# Altium footprint library Integrated_Library - 21.10.25 - 13.14.PcbLib: 16 footprints
Each footprint in its own frame and in the unit in brackets; x right, y up, seen from the top. Pads: shape width x height; smd on the part's side, far side on the other; paste and mask are expansions set on the pad; w line width, h text height; cw(c..) or ccw(c..) is an arc to the next point about the centre after c.
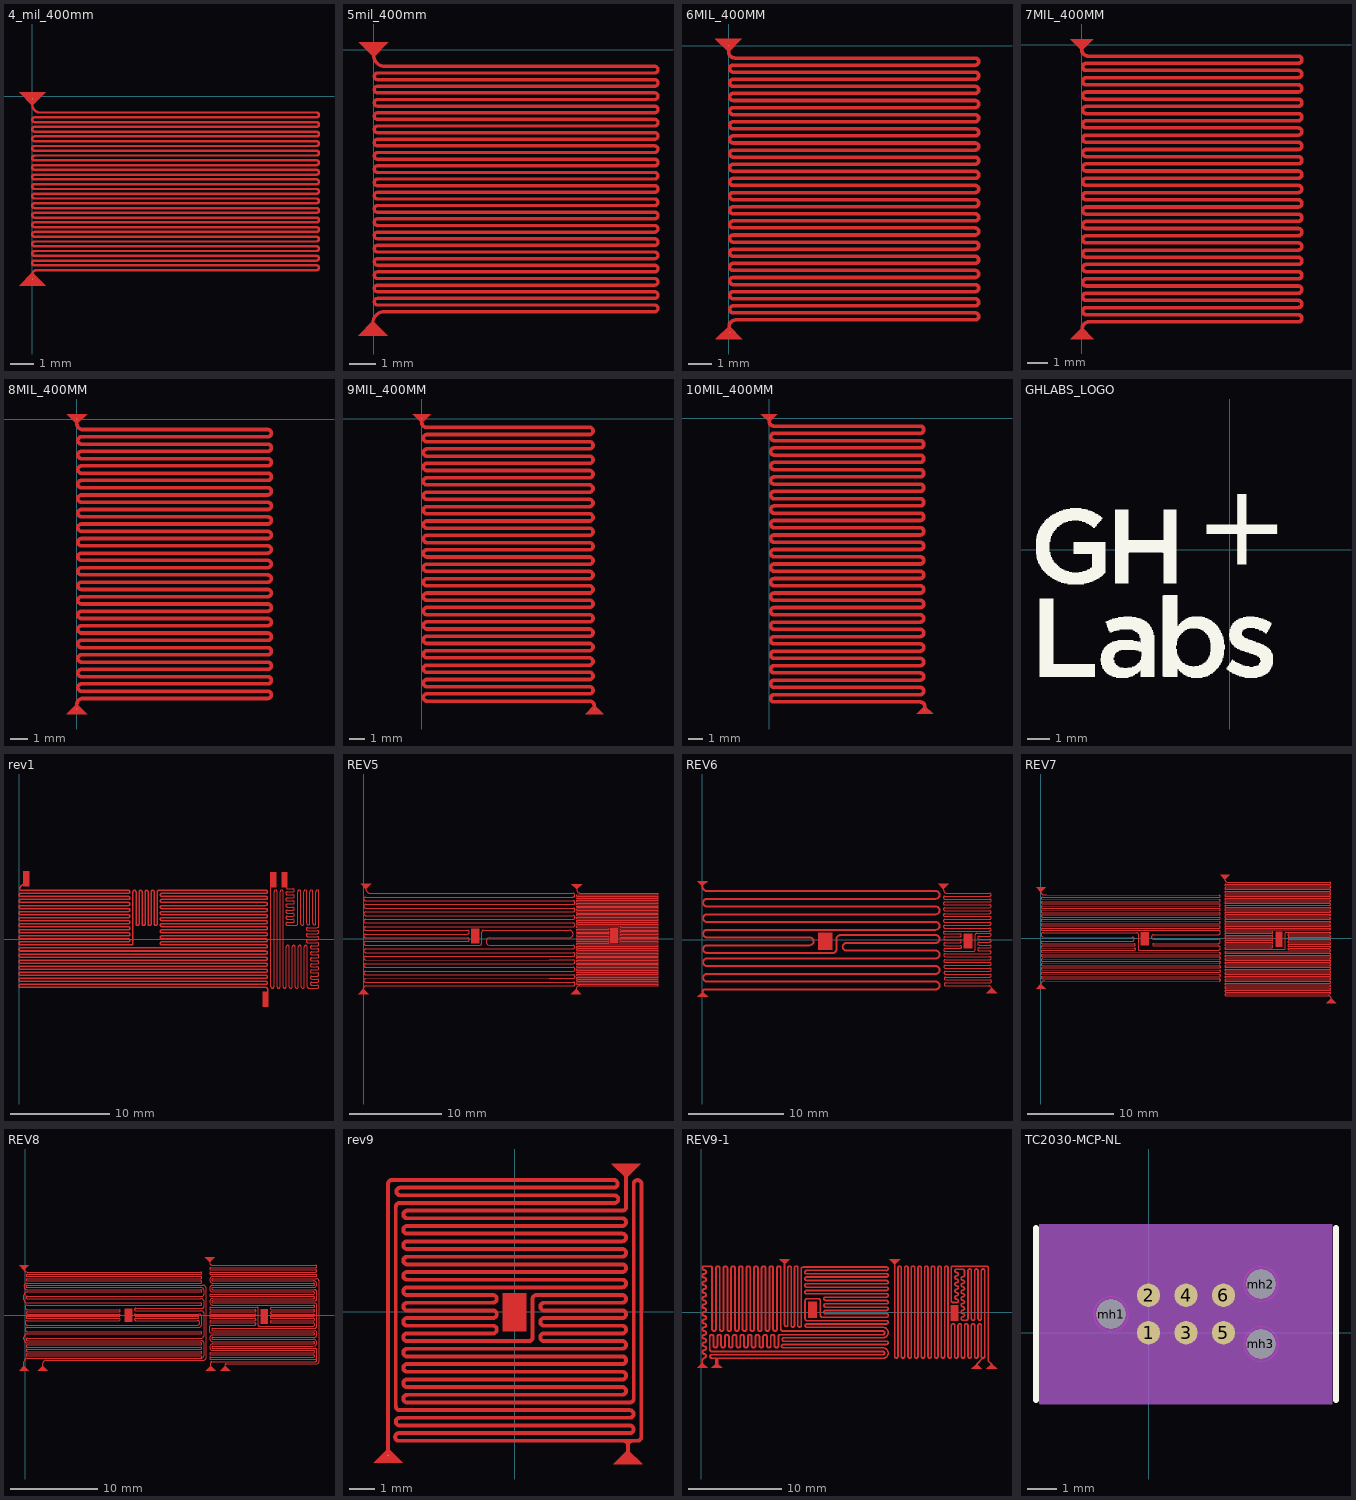
[diagram p0: the footprints below, top view; thin cyan lines are the x and y axes]

## 4_mil_400mm [mil] "4mil track about 400 mm long"
pads (2):
  round 1 smd paste-99999 mask+4: 1(0,-4) 2(0,-306)
Top Layer:
  region: 0,-15.25 -22.5,7.25 22.5,7.25
  region: 0,-294.75 22.5,-317.25 -22.5,-317.25
  lines w4: 0,-298 cw(c7.07,-298) 7.07,-290.93 476,-290.93 ccw(c476,-286.93) 476,-282.93 3.56,-282.93 cw(c3.56,-278.93) 3.56,-274.93 476,-274.93 ccw(c476,-270.93) 476,-266.93 3.56,-266.93 cw(c3.56,-262.93) 3.56,-258.93 476,-258.93 ccw(c476,-254.93) 476,-250.93 3.56,-250.93 cw(c3.56,-246.93) 3.56,-242.93 476,-242.93 ccw(c476,-238.93) 476,-234.93 3.56,-234.93 cw(c3.56,-230.93) 3.56,-226.93 476,-226.93 ccw(c476,-222.93) 476,-218.93 3.56,-218.93 cw(c3.56,-214.93) 3.56,-210.93 476,-210.93 ccw(c476,-206.93) 476,-202.93 3.56,-202.93 cw(c3.56,-198.93) 3.56,-194.93 476,-194.93 ccw(c476,-190.93) 476,-186.93 3.56,-186.93 cw(c3.56,-182.93) 3.56,-178.93 476,-178.93 ccw(c476,-174.93) 476,-170.93 3.56,-170.93 cw(c3.56,-166.93) 3.56,-162.93 476,-162.93 ccw(c476,-158.93) 476,-154.93 3.56,-154.93 cw(c3.56,-150.93) 3.56,-146.93 476,-146.93 ccw(c476,-142.93) 476,-138.93 3.56,-138.93 cw(c3.56,-134.93) 3.56,-130.93 476,-130.93 ccw(c476,-126.93) 476,-122.93 3.56,-122.93 cw(c3.56,-118.93) 3.56,-114.93 476,-114.93 ccw(c476,-110.93) 476,-106.93 3.56,-106.93 cw(c3.56,-102.93) 3.56,-98.93 476,-98.93 ccw(c476,-94.93) 476,-90.93 3.56,-90.93 cw(c3.56,-86.93) 3.56,-82.93 476,-82.93 ccw(c476,-78.93) 476,-74.93 3.56,-74.93 cw(c3.56,-70.93) 3.56,-66.93 476,-66.93 ccw(c476,-62.93) 476,-58.93 3.56,-58.93 cw(c3.56,-54.93) 3.56,-50.93 476,-50.93 ccw(c476,-46.93) 476,-42.93 3.56,-42.93 cw(c3.56,-38.93) 3.56,-34.93 476,-34.93 ccw(c476,-30.93) 476,-26.93 22,-26.93 12.93,-26.93 cw(c12.93,-14) 0,-14
  text "4mil 400mm" at 106,6 h30

## 5mil_400mm [mil] "5 mil track, 5 mil spacing, 400mm length"
pads (2):
  round 1 smd paste-99999 mask+4: 1(0,0) 2(-1,-420)
Top Layer:
  region: -1,-408.75 -23.5,-431.25 21.5,-431.25
  region: 0,-11.25 -22.5,11.25 22.5,11.25
  lines w5: -1,-412 cw(c16,-412) 16,-395 424,-395 ccw(c424,-390) 424,-385 6,-385 cw(c6,-380) 6,-375 424,-375 ccw(c424,-370) 424,-365 6,-365 cw(c6,-360) 6,-355 424,-355 ccw(c424,-350) 424,-345 6,-345 cw(c6,-340) 6,-335 424,-335 ccw(c424,-330) 424,-325 6,-325 cw(c6,-320) 6,-315 424,-315 ccw(c424,-310) 424,-305 6,-305 cw(c6,-300) 6,-295 424,-295 ccw(c424,-290) 424,-285 6,-285 cw(c6,-280) 6,-275 424,-275 ccw(c424,-270) 424,-265 6,-265 cw(c6,-260) 6,-255 424,-255 ccw(c424,-250) 424,-245 6,-245 cw(c6,-240) 6,-235 424,-235 ccw(c424,-230) 424,-225 6,-225 cw(c6,-220) 6,-215 424,-215 ccw(c424,-210) 424,-205 6,-205 cw(c6,-200) 6,-195 424,-195 ccw(c424,-190) 424,-185 6,-185 cw(c6,-180) 6,-175 424,-175 ccw(c424,-170) 424,-165 6,-165 cw(c6,-160) 6,-155 424,-155 ccw(c424,-150) 424,-145 6,-145 cw(c6,-140) 6,-135 424,-135 ccw(c424,-130) 424,-125 6,-125 cw(c6,-120) 6,-115 424,-115 ccw(c424,-110) 424,-105 6,-105 cw(c6,-100) 6,-95 424,-95 ccw(c424,-90) 424,-85 6,-85 cw(c6,-80) 6,-75 424,-75 ccw(c424,-70) 424,-65 6,-65 cw(c6,-60) 6,-55 424,-55 ccw(c424,-50) 424,-45 6,-45 cw(c6,-40) 6,-35 424,-35 ccw(c424,-30) 424,-25 43,-25 17,-25 cw(c17,-8) 0,-8
  text "5mil 400mm" at 89,7 h30

## 6MIL_400MM [mil] "6MIL track, 6MIL spacing, 400mm length"
pads (2):
  round 1 smd paste-99999 mask+4: 1(0,0) 2(1,-486)
Top Layer:
  region: 0,-11.25 -22.5,11.25 22.5,11.25
  region: 1,-474.75 -21.5,-497.25 23.5,-497.25
  lines w6: 0,-10 ccw(c11,-10) 11,-21 418,-21 cw(c418,-27) 418,-33 8,-33 ccw(c8,-39) 8,-45 418,-45 cw(c418,-51) 418,-57 8,-57 ccw(c8,-63) 8,-69 418,-69 cw(c418,-75) 418,-81 8,-81 ccw(c8,-87) 8,-93 418,-93 cw(c418,-99) 418,-105 8,-105 ccw(c8,-111) 8,-117 418,-117 cw(c418,-123) 418,-129 8,-129 ccw(c8,-135) 8,-141 418,-141 cw(c418,-147) 418,-153 8,-153 ccw(c8,-159) 8,-165 418,-165 cw(c418,-171) 418,-177 8,-177 ccw(c8,-183) 8,-189 418,-189 cw(c418,-195) 418,-201 8,-201 ccw(c8,-207) 8,-213 418,-213 cw(c418,-219) 418,-225 8,-225 ccw(c8,-231) 8,-237 418,-237 cw(c418,-243) 418,-249 8,-249 ccw(c8,-255) 8,-261 418,-261 cw(c418,-267) 418,-273 8,-273 ccw(c8,-279) 8,-285 418,-285 cw(c418,-291) 418,-297 8,-297 ccw(c8,-303) 8,-309 418,-309 cw(c418,-315) 418,-321 8,-321 ccw(c8,-327) 8,-333 418,-333 cw(c418,-339) 418,-345 8,-345 ccw(c8,-351) 8,-357 418,-357 cw(c418,-363) 418,-369 8,-369 ccw(c8,-375) 8,-381 418,-381 cw(c418,-387) 418,-393 8,-393 ccw(c8,-399) 8,-405 418,-405 cw(c418,-411) 418,-417 8,-417 ccw(c8,-423) 8,-429 418,-429 cw(c418,-435) 418,-441 8,-441 ccw(c8,-447) 8,-453 418,-453 cw(c418,-459) 418,-465 12,-465 ccw(c12,-476) 1,-476
  text "6mil 400mm" at 89.25,10.37 h30

## 7MIL_400MM [mil] "7MIL track, 7MIL spacing, 400mm length"
pads (2):
  round 1 smd paste-99999 mask+4: 1(0,0) 2(1,-562)
Top Layer:
  region: 0,-11.25 -22.5,11.25 22.5,11.25
  region: 1,-550.75 -21.5,-573.25 23.5,-573.25
  lines w7: 0,-9 ccw(c13,-9) 13,-22 14,-22 422,-22 cw(c422,-29) 422,-36 9,-36 ccw(c9,-43) 9,-50 422,-50 cw(c422,-57) 422,-64 9,-64 ccw(c9,-71) 9,-78 422,-78 cw(c422,-85) 422,-92 9,-92 ccw(c9,-99) 9,-106 422,-106 cw(c422,-113) 422,-120 9,-120 ccw(c9,-127) 9,-134 422,-134 cw(c422,-141) 422,-148 9,-148 ccw(c9,-155) 9,-162 422,-162 cw(c422,-169) 422,-176 9,-176 ccw(c9,-183) 9,-190 422,-190 cw(c422,-197) 422,-204 9,-204 ccw(c9,-211) 9,-218 422,-218 cw(c422,-225) 422,-232 9,-232 ccw(c9,-239) 9,-246 422,-246 cw(c422,-253) 422,-260 9,-260 ccw(c9,-267) 9,-274 422,-274 cw(c422,-281) 422,-288 9,-288 ccw(c9,-295) 9,-302 422,-302 cw(c422,-309) 422,-316 9,-316 ccw(c9,-323) 9,-330 422,-330 cw(c422,-337) 422,-344 9,-344 ccw(c9,-351) 9,-358 422,-358 cw(c422,-365) 422,-372 9,-372 ccw(c9,-379) 9,-386 422,-386 cw(c422,-393) 422,-400 9,-400 ccw(c9,-407) 9,-414 422,-414 cw(c422,-421) 422,-428 9,-428 ccw(c9,-435) 9,-442 422,-442 cw(c422,-449) 422,-456 9,-456 ccw(c9,-463) 9,-470 422,-470 cw(c422,-477) 422,-484 9,-484 ccw(c9,-491) 9,-498 422,-498 cw(c422,-505) 422,-512 9,-512 ccw(c9,-519) 9,-526 422,-526 cw(c422,-533) 422,-540 14,-540 ccw(c14,-553) 1,-553
  text "7mil 400mm" at 90.11,3.72 h30

## 8MIL_400MM [mil] "8MIL track, 8MIL spacing, 400mm length"
pads (2):
  round 1 smd paste-99999 mask+4: 1(0,0) 2(0,-638)
Top Layer:
  region: 0,-626.75 -22.5,-649.25 22.5,-649.25
  region: 0,-11.25 -22.5,11.25 22.5,11.25
  lines w8: 0,-628 cw(c13,-628) 13,-615 420,-615 ccw(c420,-607) 420,-599 10,-599 cw(c10,-591) 10,-583 420,-583 ccw(c420,-575) 420,-567 10,-567 cw(c10,-559) 10,-551 420,-551 ccw(c420,-543) 420,-535 10,-535 cw(c10,-527) 10,-519 420,-519 ccw(c420,-511) 420,-503 10,-503 cw(c10,-495) 10,-487 420,-487 ccw(c420,-479) 420,-471 10,-471 cw(c10,-463) 10,-455 420,-455 ccw(c420,-447) 420,-439 10,-439 cw(c10,-431) 10,-423 420,-423 ccw(c420,-415) 420,-407 10,-407 cw(c10,-399) 10,-391 420,-391 ccw(c420,-383) 420,-375 10,-375 cw(c10,-367) 10,-359 420,-359 ccw(c420,-351) 420,-343 10,-343 cw(c10,-335) 10,-327 420,-327 ccw(c420,-319) 420,-311 10,-311 cw(c10,-303) 10,-295 420,-295 ccw(c420,-287) 420,-279 10,-279 cw(c10,-271) 10,-263 420,-263 ccw(c420,-255) 420,-247 10,-247 cw(c10,-239) 10,-231 420,-231 ccw(c420,-223) 420,-215 10,-215 cw(c10,-207) 10,-199 420,-199 ccw(c420,-191) 420,-183 10,-183 cw(c10,-175) 10,-167 420,-167 ccw(c420,-159) 420,-151 10,-151 cw(c10,-143) 10,-135 420,-135 ccw(c420,-127) 420,-119 10,-119 cw(c10,-111) 10,-103 420,-103 ccw(c420,-95) 420,-87 10,-87 cw(c10,-79) 10,-71 420,-71 ccw(c420,-63) 420,-55 10,-55 cw(c10,-47) 10,-39 420,-39 ccw(c420,-31) 420,-23 16,-23 13,-23 cw(c13,-10) 0,-10
  text "8mil 400mm" at 93.99,6.14 h30

## 9MIL_400MM [mil] "9MIL track, 9MIL spacing, 400mm length"
pads (2):
  round 1 smd paste-99999 mask+4: 1(0,0) 2(431,-727)
Top Layer:
  region: 431,-715.75 453.5,-738.25 408.5,-738.25
  region: 0,-11.25 -22.5,11.25 22.5,11.25
  lines w9: 0,-10 ccw(c12,-10) 12,-22 419,-22 cw(c419,-31) 419,-40 13,-40 ccw(c13,-49) 13,-58 419,-58 cw(c419,-67) 419,-76 13,-76 ccw(c13,-85) 13,-94 419,-94 cw(c419,-103) 419,-112 13,-112 ccw(c13,-121) 13,-130 419,-130 cw(c419,-139) 419,-148 13,-148 ccw(c13,-157) 13,-166 419,-166 cw(c419,-175) 419,-184 13,-184 ccw(c13,-193) 13,-202 419,-202 cw(c419,-211) 419,-220 13,-220 ccw(c13,-229) 13,-238 419,-238 cw(c419,-247) 419,-256 13,-256 ccw(c13,-265) 13,-274 419,-274 cw(c419,-283) 419,-292 13,-292 ccw(c13,-301) 13,-310 419,-310 cw(c419,-319) 419,-328 13,-328 ccw(c13,-337) 13,-346 419,-346 cw(c419,-355) 419,-364 13,-364 ccw(c13,-373) 13,-382 419,-382 cw(c419,-391) 419,-400 13,-400 ccw(c13,-409) 13,-418 419,-418 cw(c419,-427) 419,-436 13,-436 ccw(c13,-445) 13,-454 419,-454 cw(c419,-463) 419,-472 13,-472 ccw(c13,-481) 13,-490 419,-490 cw(c419,-499) 419,-508 13,-508 ccw(c13,-517) 13,-526 419,-526 cw(c419,-535) 419,-544 13,-544 ccw(c13,-553) 13,-562 419,-562 cw(c419,-571) 419,-580 13,-580 ccw(c13,-589) 13,-598 419,-598 cw(c419,-607) 419,-616 13,-616 ccw(c13,-625) 13,-634 419,-634 cw(c419,-643) 419,-652 13,-652 ccw(c13,-661) 13,-670 419,-670 cw(c419,-679) 419,-688 13,-688 ccw(c13,-697) 13,-706 419,-706 cw(c419,-718) 431,-718
  text "9mil 400mm" at 104.99,12.14 h30

## 10MIL_400MM [mil] "10MIL track, 10MIL spacing, 400mm length"
pads (2):
  round 1 smd paste-99999 mask+4: 1(0,0) 2(429,-804)
Top Layer:
  region: 429,-792.75 451.5,-815.25 406.5,-815.25
  region: 0,-11.25 -22.5,11.25 22.5,11.25
  lines w10: 0,-9 ccw(c13,-9) 13,-22 416,-22 cw(c416,-32) 416,-42 14,-42 ccw(c14,-52) 14,-62 416,-62 cw(c416,-72) 416,-82 14,-82 ccw(c14,-92) 14,-102 416,-102 cw(c416,-112) 416,-122 14,-122 ccw(c14,-132) 14,-142 416,-142 cw(c416,-152) 416,-162 14,-162 ccw(c14,-172) 14,-182 416,-182 cw(c416,-192) 416,-202 14,-202 ccw(c14,-212) 14,-222 416,-222 cw(c416,-232) 416,-242 14,-242 ccw(c14,-252) 14,-262 416,-262 cw(c416,-272) 416,-282 14,-282 ccw(c14,-292) 14,-302 416,-302 cw(c416,-312) 416,-322 14,-322 ccw(c14,-332) 14,-342 416,-342 cw(c416,-352) 416,-362 14,-362 ccw(c14,-372) 14,-382 416,-382 cw(c416,-392) 416,-402 14,-402 ccw(c14,-412) 14,-422 416,-422 cw(c416,-432) 416,-442 14,-442 ccw(c14,-452) 14,-462 416,-462 cw(c416,-472) 416,-482 14,-482 ccw(c14,-492) 14,-502 416,-502 cw(c416,-512) 416,-522 14,-522 ccw(c14,-532) 14,-542 416,-542 cw(c416,-552) 416,-562 14,-562 ccw(c14,-572) 14,-582 416,-582 cw(c416,-592) 416,-602 14,-602 ccw(c14,-612) 14,-622 416,-622 cw(c416,-632) 416,-642 14,-642 ccw(c14,-652) 14,-662 416,-662 cw(c416,-672) 416,-682 14,-682 ccw(c14,-692) 14,-702 416,-702 cw(c416,-712) 416,-722 14,-722 ccw(c14,-732) 14,-742 416,-742 cw(c416,-752) 416,-762 14,-762 ccw(c14,-772) 14,-782 416,-782 cw(c416,-795) 429,-795
  text "10mil 400mm" at 79,6 h30

## GHLABS_LOGO [mil]
Top Overlay:
  drawing of 6 lines, arcs and shapes, not listed
  text "+" at -62,-74.14 h250

## rev1 [mil] "valve heater: 3 mil, 4.93 x 10mm / amp heater: 6 mil, 25.02 x 10mm"
pads (4):
  round 1 smd paste-99999: 1(28,239) 2(975,-238) 3(1006,235) 4(1050,235)
Top Layer:
  region: 39,209 39,269 16,269 16,209
  region: 986,-268 986,-208 963,-208 963,-268
  region: 1017,205 1017,265 994,265 994,205
  region: 1061,205 1061,265 1038,265 1038,205
  lines w3: 996,212 996,-188 ccw(c1002,-188) 1008,-188 1008,188 cw(c1014,188) 1020,188 1020,-188 ccw(c1026,-188) 1032,-188 1032,188 cw(c1038,188) 1044,188 1044,-188 ccw(c1050,-188) 1056,-188 1056,-31 cw(c1062,-31) 1068,-31 1068,-188 ccw(c1074,-188) 1080,-188 1080,-31 cw(c1086,-31) 1092,-31 1092,-188 ccw(c1098,-188) 1104,-188 1104,-31 cw(c1110,-31) 1116,-31 1116,-188 ccw(c1122,-188) 1128,-188 1128,-31 cw(c1134,-31) 1140,-31 1140,-188 ccw(c1146,-188) 1145.78,-194 1180,-194 ccw(c1180,-188) 1180,-182 1158,-182 cw(c1158,-176) 1158,-170 1180,-170 ccw(c1180,-164) 1180,-158 1158,-158 cw(c1158,-152) 1158,-146 1180,-146 ccw(c1180,-140) 1180,-134 1158,-134 cw(c1158,-128) 1158,-122 1180,-122 ccw(c1180,-116) 1180,-110 1158,-110 cw(c1158,-104) 1158,-98 1180,-98 ccw(c1180,-92) 1180,-86 1158,-86 cw(c1158,-80) 1158,-74 1180,-74 ccw(c1180,-68) 1180,-62 1158,-62 cw(c1158,-56) 1158,-50 1180,-50 ccw(c1180,-44) 1180,-38 1158,-38 cw(c1158,-32) 1158,-26 1180,-26 ccw(c1180,-20) 1180,-14 1142,-14 cw(c1142,-8) 1142,-2 1180,-2 ccw(c1180,4) 1180,10 1142,10 cw(c1142,16) 1142,22 1180,22 ccw(c1180,28) 1180,34 1142,34 cw(c1142,40) 1142,46 1180,46 ccw(c1180,52) 1186,52 1186,188 ccw(c1180,188) 1174,188 1174,61.96 cw(c1168,61.96) 1162,61.96 1162,188 ccw(c1156,188) 1150,188 1150,61.88 cw(c1144,61.88) 1138,61.88 1138,188 ccw(c1132,188) 1126,188 1126,61.1 cw(c1120,61.1) 1114,61.1 1114,188 ccw(c1108,188) 1102,188 1102,61 cw(c1096,61) 1096,55 1061,55 cw(c1061,61) 1061,67 1083,67 ccw(c1083,73) 1083,79 1061,79 cw(c1061,85) 1061,91 1082.69,91 ccw(c1082.69,97) 1082.69,103 1060.69,103 cw(c1060.69,109) 1060.69,115 1082.69,115 ccw(c1082.69,121) 1082.69,127 1060.69,127 cw(c1060.69,133) 1060.69,139 1082.69,139 ccw(c1082.69,145) 1082.69,151 1060.69,151 cw(c1060.69,157) 1060.69,163 1082.69,163 ccw(c1082.69,169) 1082.69,175 1060.69,175 cw(c1060.69,181) 1060.69,187 1082.69,187 ccw(c1082.69,193) 1082.69,199 1060.69,199 cw(c1060.69,201.69) 1058,201.69 1058,210 ccw(c1057,210) 1057,211
  lines w6: 21,217 ccw(c21,198) 2,198 ccw(c7,198) 7,193 432,193 cw(c432,187) 432,181 5,181 ccw(c5,175) 5,169 432,169 cw(c432,163) 432,157 5,157 ccw(c5,151) 5,145 433,145 ; 431,13 5,13 ccw(c5,7) 5,1 432,1 cw(c432,-5) 432,-11 5,-11 ccw(c5,-17) 5,-23 444,-23 ccw(c444,-17) 450,-17 450,187 cw(c456,187) 462,187 462,60 ccw(c468,60) 474,60 474,187 cw(c480,187) 486,187 486,60 ccw(c492,60) 498,60 498,187 cw(c504,187) 510,187 510,60 ccw(c516,60) 522,60 522,187 cw(c528,187) 534,187 ; 432,13 ccw(c432,19) 432,25 5,25 cw(c5,31) 5,37 433,37 ; 432,37 ccw(c432,43) 432,49 5,49 cw(c5,55) 5,61 432,61 ccw(c432,67) 432,73 ; 432,97 cw(c432,91) 432,85 5,85 ccw(c5,79) 5,73 433,73 ; 432,121 cw(c432,115) 432,109 5,109 ccw(c5,103) 5,97 433,97 ; 432,133 ccw(c432,139) 432,145 ; 433,121 5,121 cw(c5,127) 5,133 433,133 ; 534,186 534,60 ccw(c540,60) 546,60 546,187 cw(c552,187) 552,193 976,193 cw(c976,187) 976,181 564,181 ccw(c564,175) 564,169 976,169 cw(c976,163) 976,157 564,157 ccw(c564,151) 564,145 976,145 cw(c976,139) 976,133 564,133 ccw(c564,127) 564,121 976,121 cw(c976,115) 976,109 564,109 ccw(c564,103) 564,97 976,97 cw(c976,91) 976,85 564,85 ccw(c564,79) 564,73 976,73 cw(c976,67) 976,61 564,61 ccw(c564,55) 564,49 976,49 cw(c976,43) 976,37 564,37 ccw(c564,31) 564,25 976,25 cw(c976,19) 976,13 564,13 ccw(c564,7) 564,1 976,1 cw(c976,-5) 976,-11 564,-11 ccw(c564,-17) 564,-23 976,-23 cw(c976,-29) 976,-35 5,-35 ccw(c5,-41) 5,-47 976,-47 cw(c976,-53) 976,-59 ; 974.4,-191 cw(c974.4,-199.6) 983,-199.6 983,-214.26 ; 975,-191 5,-191 cw(c5,-185) 5,-179 976,-179 ccw(c976,-173) 976,-167 5,-167 cw(c5,-161) 5,-155 976,-155 ccw(c976,-149) 976,-143 ; 976,-83 ccw(c976,-77) 976,-71 5,-71 cw(c5,-65) 5,-59 977,-59 ; 977,-143 5,-143 cw(c5,-137) 5,-131 976,-131 ccw(c976,-125) 976,-119 5,-119 cw(c5,-113) 5,-107 976,-107 ccw(c976,-101) 976,-95 5,-95 cw(c5,-89) 5,-83 977,-83

## REV5 [mil] "2V5 Design"
pads (4):
  round 1 smd paste-99999 mask+4: 1(9.04,223.46) 2(-1.94,-223.16) 3(906.22,221.67) 4(903.25,-223.92)
Top Layer:
  rectangle: 1048.42,-19.64 1081.51,47.65
  rectangle: 456.26,-19.12 493.41,43.6
  region: 903.25,-212.67 925.75,-235.17 880.75,-235.17
  region: 906.22,210.42 883.72,232.92 928.72,232.92
  region: 9.04,212.21 -13.46,234.71 31.54,234.71
  region: -1.94,-211.9 20.56,-234.41 20.55,-234.41 -24.45,-234.41
  lines w3: -2.28,-223.14 -1.72,-212.76 ; 8.44,-26.52 cw(c8.44,-18.64) 8.44,-10.77 441.74,-10.66 ccw(c441.74,-2.78) 441.74,5.09 8.44,4.98 cw(c8.44,12.85) 8.44,20.73 441.74,20.84 ccw(c441.74,28.71) 441.74,36.59 8.44,36.48 cw(c8.44,44.35) 8.44,52.22 789.87,52.43 890.51,52.43 ; 8.44,-26.47 493.78,-26.34 ccw(c493.78,-18.58) 501.47,-17.48 501.47,27.55 cw(c509.17,28.64) 509.17,36.41 874.94,36.51 cw(c874.94,20.76) 874.94,5.01 536.15,4.92 ccw(c536.15,-10.83) 536.15,-26.58 890.53,-26.49 ; 8.82,213.06 ccw(c27.72,213.06) 27.72,194.16 779.28,194.16 879.91,194.16 889.45,194.16 890.51,194.16 cw(c890.51,186.28) 890.51,178.41 789.87,178.41 8.44,178.21 ccw(c8.44,170.33) 8.44,162.46 789.87,162.66 890.51,162.66 ; 890.51,68.17 789.87,68.17 8.44,67.97 cw(c8.44,75.85) 8.44,83.72 789.87,83.92 890.51,83.92 ; 890.51,99.67 789.87,99.67 8.44,99.47 cw(c8.44,107.34) 8.44,115.22 789.87,115.42 890.51,115.42 ; 890.51,131.17 789.87,131.17 8.44,130.96 cw(c8.44,138.84) 8.44,146.71 789.87,146.91 890.51,146.91 ; 890.53,-199.66 789.9,-199.66 11.17,-199.86 ccw(c11.17,-212.76) -1.72,-212.76 ; 890.53,-183.91 789.9,-183.91 8.46,-184.11 cw(c8.46,-176.24) 8.46,-168.37 789.9,-168.16 890.53,-168.16 ; 890.53,-152.42 789.9,-152.42 8.46,-152.62 cw(c8.46,-144.74) 8.46,-136.87 789.9,-136.67 890.53,-136.67 ; 890.53,-120.92 789.9,-120.92 8.46,-121.12 cw(c8.46,-113.25) 8.46,-105.37 789.9,-105.17 890.53,-105.17 ; 890.53,-89.42 789.9,-89.42 8.46,-89.63 cw(c8.46,-81.75) 8.46,-73.88 789.9,-73.68 890.53,-73.68 ; 890.53,-57.93 789.9,-57.93 8.46,-58.13 cw(c8.46,-50.26) 8.46,-42.38 789.9,-42.18 890.53,-42.18 ccw(c890.53,-34.31) 890.53,-26.43 ; 891.06,-199.66 ccw(c891.06,-191.79) 891.06,-183.91 ; 891.06,-168.16 ccw(c891.06,-160.29) 891.06,-152.42 ; 891.06,-136.67 ccw(c891.06,-128.79) 891.06,-120.92 ; 891.06,-105.17 ccw(c891.06,-97.3) 891.06,-89.42 ; 891.06,-73.68 ccw(c891.06,-65.8) 891.06,-57.93 ; 891.03,52.43 ccw(c891.03,60.3) 891.03,68.17 ; 891.03,83.92 ccw(c891.03,91.8) 891.03,99.67 ; 891.03,115.42 ccw(c891.03,123.29) 891.03,131.17 ; 891.03,146.91 ccw(c891.03,154.79) 891.03,162.66 ; 903.3,-214.73 cw(c919.44,-214.73) 919.44,-198.58 925.74,-198.58 1188.97,-198.58 1189.08,-198.58 1252,-198.58 1252,-192.64 982.62,-192.64 ccw(c982.6,-192.64) 982.6,-192.62 906.09,-192.62 906.09,-186.62 ; 906,212.28 ccw(c924.2,212.28) 924.2,194.08 949.94,194.08 1252,194.08 1252,188.1 906,188.1 906,182.1 984.99,182.1 ; 906.11,-186.64 982.62,-186.64 1252,-186.64 1252,-180.64 982.62,-180.64 ccw(c982.6,-180.64) 982.6,-180.62 906.09,-180.62 ; 906.11,-180.64 906.11,-174.64 982.62,-174.64 1252,-174.64 1252,-168.64 982.62,-168.64 ccw(c982.6,-168.64) 982.6,-168.62 906.09,-168.62 ; 906.11,-168.64 906.11,-162.64 982.62,-162.64 1252,-162.64 1252,-156.64 982.62,-156.64 ccw(c982.6,-156.64) 982.6,-156.62 906.09,-156.62 ; 906.11,-156.64 906.11,-150.64 982.62,-150.64 1252,-150.64 1252,-144.64 982.62,-144.64 ccw(c982.6,-144.64) 982.6,-144.62 906.09,-144.62 ; 906.11,-144.64 906.11,-138.64 982.62,-138.64 1252,-138.64 1252,-132.64 982.62,-132.64 ccw(c982.6,-132.64) 982.6,-132.62 906.09,-132.62 ; 906.11,-132.64 906.11,-126.64 982.62,-126.64 1252,-126.64 1252,-120.64 982.62,-120.64 ccw(c982.6,-120.64) 982.6,-120.62 906.09,-120.62 ; 906.11,-120.64 906.11,-114.64 982.62,-114.64 1252,-114.64 1252,-108.64 982.62,-108.64 ccw(c982.6,-108.64) 982.6,-108.62 906.09,-108.62 ; 906.11,-108.64 906.11,-102.64 982.62,-102.64 1252,-102.64 1252,-96.64 982.62,-96.64 ccw(c982.6,-96.64) 982.6,-96.62 906.09,-96.62 ; 906.11,-96.64 906.11,-90.64 982.62,-90.64 1252,-90.64 1252,-84.64 982.62,-84.64 ccw(c982.6,-84.64) 982.6,-84.62 906.09,-84.62 906.09,-78.62 982.6,-78.62 cw(c982.6,-78.64) 982.62,-78.64 1252,-78.64 1252,-72.64 982.62,-72.64 ccw(c982.6,-72.64) 982.6,-72.62 906.09,-72.62 906.09,-66.62 982.6,-66.62 cw(c982.6,-66.64) 982.62,-66.64 1252,-66.64 1252,-60.64 982.62,-60.64 ccw(c982.6,-60.64) 982.6,-60.62 906.09,-60.62 906.09,-54.62 982.6,-54.62 cw(c982.6,-54.64) 982.62,-54.64 1252,-54.64 1252,-48.64 982.62,-48.64 ccw(c982.6,-48.64) 982.6,-48.62 906.09,-48.62 906.09,-42.62 982.6,-42.62 cw(c982.6,-42.64) 982.62,-42.64 1252,-42.64 1252,-36.64 982.62,-36.64 ccw(c982.6,-36.64) 982.6,-36.62 906.09,-36.62 906.09,-30.62 982.6,-30.62 cw(c982.6,-30.64) 982.62,-30.64 1252,-30.64 1252,-24.64 982.62,-24.64 ccw(c982.6,-24.64) 982.6,-24.62 906.09,-24.62 906.09,-18.62 982.6,-18.62 cw(c982.6,-18.64) 982.62,-18.64 1043.54,-18.64 1043.54,-12.64 982.62,-12.64 ccw(c982.6,-12.64) 982.6,-12.62 906.09,-12.62 906.09,-6.62 982.6,-6.62 cw(c982.6,-6.64) 982.62,-6.64 1043.54,-6.64 1043.54,-0.64 982.62,-0.64 ccw(c982.6,-0.64) 982.6,-0.62 906.09,-0.62 906.09,5.38 982.6,5.38 cw(c982.6,5.36) 982.62,5.36 1043.54,5.36 1043.54,11.36 982.62,11.36 ccw(c982.6,11.36) 982.6,11.38 906.09,11.38 906.09,17.38 982.6,17.38 cw(c982.6,17.36) 982.62,17.36 1043.54,17.36 1043.54,23.36 982.62,23.36 ccw(c982.6,23.36) 982.6,23.38 906.09,23.38 906.09,29.38 982.6,29.38 cw(c982.6,29.36) 982.62,29.36 1043.54,29.36 1043.54,35.36 982.62,35.36 ccw(c982.6,35.36) 982.6,35.38 906.09,35.38 906.09,41.38 982.6,41.38 cw(c982.6,41.36) 982.62,41.36 1043.54,41.36 1043.54,47.36 982.62,47.36 ccw(c982.6,47.36) 982.6,47.38 906.09,47.38 906.09,55.68 982.6,55.68 cw(c982.6,55.66) 982.62,55.66 1086.15,55.66 1086.15,-16.05 1252,-16.05 1252,-10.05 1094.18,-10.05 ; 982.53,170.08 1252,170.08 1252,164.08 982.53,164.08 ccw(c982.51,164.08) 982.51,164.1 906,164.1 906,158.1 982.51,158.1 cw(c982.51,158.08) 982.53,158.08 1252,158.08 1252,152.08 982.53,152.08 ccw(c982.51,152.08) 982.51,152.1 906,152.1 906,146.1 982.51,146.1 cw(c982.51,146.08) 982.53,146.08 1252,146.08 1252,140.08 982.53,140.08 ccw(c982.51,140.08) 982.51,140.1 906,140.1 906,134.1 982.51,134.1 cw(c982.51,134.08) 982.53,134.08 1252,134.08 1252,128.08 982.53,128.08 ccw(c982.51,128.08) 982.51,128.1 906,128.1 906,122.1 982.51,122.1 cw(c982.51,122.08) 982.53,122.08 1252,122.08 1252,116.08 982.53,116.08 ccw(c982.51,116.08) 982.51,116.1 906,116.1 906,110.1 982.51,110.1 cw(c982.51,110.08) 982.53,110.08 1252,110.08 1252,104.08 982.53,104.08 ccw(c982.51,104.08) 982.51,104.1 906,104.1 906,98.1 982.51,98.1 cw(c982.51,98.08) 982.53,98.08 1252,98.08 1252,92.08 982.53,92.08 ccw(c982.51,92.08) 982.51,92.1 906,92.1 906,86.1 982.51,86.1 cw(c982.51,86.08) 982.53,86.08 1252,86.08 1252,80.08 982.53,80.08 ccw(c982.51,80.08) 982.51,80.1 906,80.1 906,74.1 982.51,74.1 cw(c982.51,74.08) 982.53,74.08 1252,74.08 1252,68.08 982.53,68.08 ccw(c982.51,68.08) 982.51,68.1 906,68.1 906,62.1 982.51,62.1 cw(c982.51,62.08) 982.53,62.08 1252,62.08 1252,55.95 1094.18,55.95 ; 982.53,176.08 1252,176.08 1252,182.08 982.53,182.08 ; 1094.18,-9.85 1094.18,-3.85 ; 1094.18,-4.05 1252,-4.05 1252,1.95 1094.18,1.95 ; 1094.18,2.15 1094.18,8.15 ; 1094.18,7.95 1252,7.95 1252,13.95 1094.18,13.95 ; 1094.18,14.15 1094.18,20.15 ; 1094.18,19.95 1252,19.95 1252,25.95 1094.18,25.95 ; 1094.18,26.15 1094.18,32.15 ; 1094.18,31.95 1252,31.95 1252,37.95 1094.18,37.95 ; 1094.18,38.15 1094.18,44.15 ; 1094.18,43.95 1252,43.95 1252,49.95 1094.18,49.95 ; 1094.18,50.15 1094.18,56.15 ; -1.72,-212.76 -1.94,-223.16 -1.72,-212.76 ; 985.01,170.08 ccw(c984.99,170.08) 984.99,170.1 ; 984.99,170.1 906,170.1 906,176.1 984.99,176.1 ; 985.01,176.08 ccw(c984.99,176.08) 984.99,176.1 ; 985.01,182.08 ccw(c984.99,182.08) 984.99,182.1

## REV6 [mil] "1V5 Design"
pads (4):
  round 1 smd paste-99999 mask+4: 1(1,231) 2(2,-225) 3(996.04,219) 4(1194.54,-210)
Top Layer:
  rectangle: 478,-42 538,30
  rectangle: 1079,-36.78 1116.16,26.11
  region: 1194.54,-198.75 1217.04,-221.25 1217.03,-221.25 1172.03,-221.25
  region: 2,-213.75 24.5,-236.25 -20.5,-236.25
  region: 1,219.75 -21.5,242.25 23.5,242.25
  region: 996.04,207.75 973.54,230.25 1018.54,230.25
  lines w4: 996.04,208.57 996.04,206.09 ccw(c1010.09,206.02) 1010.09,191.97 1187,191.97 ; 996.04,213.52 996.04,222 ; 1002,12 1064,12 ccw(c1064,18) 1064,24 ; 1002.31,-11.96 1064.31,-11.96 ccw(c1064.31,-5.96) 1064.31,0.04 ; 1002.31,12.01 ccw(c1002.31,6.01) 1002.31,0.01 1064.31,0.01 ; 1002.61,-35.92 1064.61,-35.92 ccw(c1064.61,-29.92) 1064.61,-23.92 ; 1002.61,-11.95 ccw(c1002.61,-17.95) 1002.61,-23.95 1064.61,-23.95 ; 1002.92,-57.83 1187,-57.83 ; 1002.92,-35.91 ccw(c1002.92,-41.91) 1002.92,-47.91 1121,-47.91 ccw(c1121,-41.91) 1127,-41.93 1127,20.07 cw(c1133,20.05) 1133,26.05 ; 1003.23,-81.85 1187.31,-81.85 ; 1003.23,-57.82 ccw(c1003.23,-63.82) 1003.23,-69.82 1187.31,-69.82 cw(c1187.31,-75.82) 1187.31,-81.82 ; 1003.54,-105.87 1187.61,-105.87 ccw(c1187.61,-99.84) 1187.61,-93.84 1003.54,-93.84 cw(c1003.54,-87.84) 1003.54,-81.84 ; 1003.84,-129.9 1187.92,-129.9 ; 1003.84,-105.87 ccw(c1003.84,-111.87) 1003.84,-117.87 1187.92,-117.87 cw(c1187.92,-123.87) 1187.92,-129.87 ; 1004.15,-153.92 1188.23,-153.92 ccw(c1188.23,-147.89) 1188.23,-141.89 1004.15,-141.89 cw(c1004.15,-135.89) 1004.15,-129.89 ; 1004.46,-177.94 1188.54,-177.94 ; 1004.46,-153.91 ccw(c1004.46,-159.91) 1004.46,-165.91 1188.54,-165.91 cw(c1188.54,-171.91) 1188.54,-177.91 ; 1004.76,-177.94 ccw(c1004.76,-183.94) 1004.76,-189.94 1174,-189.94 1182.47,-189.94 cw(c1182.47,-202) 1194.54,-202 ; 1064,23.97 1002,23.97 cw(c1002,29.94) 1002,35.94 1187,35.97 ; 1133,26.08 1187,26.08 cw(c1187,20.11) 1187,14.11 1143,14.08 ccw(c1143,8.11) 1143,2.11 1187,2.11 ; 1143,-9.89 1187,-9.89 ; 1143,-9.86 ccw(c1143,-15.86) 1143,-21.86 1187,-21.86 cw(c1187,-27.83) 1187,-33.83 1143,-33.86 ccw(c1143,-39.83) 1143,-45.83 1187,-45.83 ; 1187,-57.8 ccw(c1187,-51.8) 1187,-45.8 ; 1187,-9.86 ccw(c1187,-3.86) 1187,2.14 ; 1187,36 ccw(c1187,42) 1187,48 ; 1187,47.97 1002,47.97 cw(c1002,53.94) 1002,59.94 1187,59.97 ; 1187,60 ccw(c1187,66) 1187,72 ; 1187,71.97 1002,71.97 cw(c1002,77.94) 1002,83.94 1187,83.97 ; 1187,84 ccw(c1187,90) 1187,96 ; 1187,95.97 1002,95.97 cw(c1002,101.94) 1002,107.94 1187,107.97 ; 1187,108 ccw(c1187,114) 1187,120 ; 1187,119.97 1002,119.97 cw(c1002,125.94) 1002,131.94 1187,131.97 ; 1187,132 ccw(c1187,138) 1187,144 ; 1187,143.97 1002,143.97 cw(c1002,149.94) 1002,155.94 1187,155.97 ; 1187,156 ccw(c1187,162) 1187,168 ; 1187,167.97 1002,167.97 cw(c1002,173.94) 1002,179.94 1187,179.97 ; 1187,180 ccw(c1187,186) 1187,192
  lines w8: 1,220 ccw(c20,220) 20,201 964,201 cw(c964,185) 964,169 20,169 ccw(c20,153) 20,137 964,137 cw(c964,121) 964,105 20,105 ccw(c20,89) 20,73 964,73 cw(c964,57) 964,41 20,41 ccw(c20,25) 20,9 444,9 cw(c444,-7) 444,-23 20,-23 ccw(c20,-39) 20,-55 538,-55 ccw(c538,-39) 554,-39 554,3 cw(c570,3) 570,19 964,19 cw(c964,3) 964,-13 596,-13 ccw(c596,-29) 596,-45 964,-45 cw(c964,-61) 964,-77 20,-77 ccw(c20,-93) 20,-109 964,-109 cw(c964,-125) 964,-141 20,-141 ccw(c20,-157) 20,-173 964,-173 cw(c964,-189) 964,-205 20,-205 11,-205 ccw(c11,-214) 2,-214

## REV7 [mil] "2V5 4mil"
pads (4):
  round 1 smd paste-99999 mask+4: 1(0,221) 2(0,-218) 3(836,277) 4(1318,-283)
Top Layer:
  rectangle: 452.84,-33 490,29.72
  rectangle: 1064.91,-39 1098,30.28
  region: 1318,-271.75 1340.5,-294.25 1295.5,-294.25
  region: 0,209.75 -22.5,232.25 22.5,232.25
  region: 0,-206.75 22.5,-229.25 -22.5,-229.25
  region: 836,265.75 813.5,288.25 858.5,288.25
  lines w4: 0,-208 cw(c14.37,-208) 14.37,-193.63 15,-193.63 810.93,-194.39 ccw(c810.93,-189.39) 810.93,-184.39 5.94,-183.62 cw(c5.94,-178.62) 5.94,-173.62 810.94,-174.39 ccw(c810.94,-169.39) 810.94,-164.39 5.95,-163.62 cw(c5.95,-158.62) 5.95,-153.62 810.95,-154.4 ccw(c810.95,-149.4) 810.95,-144.4 5.96,-143.62 cw(c5.96,-138.62) 5.96,-133.62 810.96,-134.4 ccw(c810.96,-129.4) 810.96,-124.4 5.97,-123.62 cw(c5.97,-118.62) 5.97,-113.62 810.97,-114.4 ccw(c810.97,-109.4) 810.97,-104.4 ; 0,211 ccw(c14.04,211) 14.04,196.96 26,196.96 810,196.21 cw(c810,191.21) 810,186.21 6,186.98 ; 5.99,-83.63 cw(c5.99,-78.63) 5.99,-73.63 810.99,-74.4 ccw(c810.99,-69.4) 810.99,-64.4 6,-63.63 cw(c6,-58.63) 6,-53.63 425,-54.03 ; 5.99,-83.62 810.99,-84.4 cw(c810.98,-89.4) 810.98,-94.4 5.98,-93.62 ccw(c5.98,-98.62) 5.98,-103.62 810.98,-104.4 ; 6,186.97 ccw(c6,181.97) 6,176.97 810,176.2 cw(c810,171.2) 810,166.2 6,166.97 ccw(c6,161.97) 6,156.97 810,156.19 cw(c810,151.19) 810,146.19 6,146.97 ccw(c6,141.96) 6,136.96 810,136.19 cw(c810,131.19) 810,126.19 6,126.96 ccw(c6,121.95) 6,116.95 810,116.18 cw(c810,111.18) 810,106.18 6,106.95 ccw(c6,101.95) 6,96.95 810,96.17 cw(c810,91.17) 810,86.17 6,86.95 ccw(c6,81.94) 6,76.94 810,76.17 cw(c810,71.17) 810,66.17 6,66.94 ccw(c6,61.93) 6,56.93 810,56.16 cw(c810,51.16) 810,46.16 6,46.93 ccw(c6,41.93) 6,36.93 805,36.16 cw(c805,26.15) 805,16.15 512,16.44 ccw(c511.99,6.44) 511.99,-3.56 804.99,-3.84 cw(c804.99,-13.85) 804.99,-23.85 512,-23.56 ccw(c512,-28.56) 512,-33.56 804.99,-33.84 cw(c804.99,-43.85) 804.99,-53.85 446.04,-53.5 cw(c446.04,-48.46) 441,-48.46 441,21 ccw(c436,21) 436,26 11,26.41 ccw(c11,16.41) 11,6.41 414.01,6.02 ; 414.01,-13.98 6.01,-13.59 ccw(c6.01,-18.59) 6.01,-23.59 423,-23.99 cw(c423,-28.98) 423,-33.98 6.01,-33.59 ccw(c6.01,-38.59) 6.01,-43.59 425.01,-43.99 cw(c425,-48.99) 425,-53.99 ; 414.01,-13.95 ccw(c414.01,-3.95) 414.01,6.05 ; 836,267 ccw(c848.93,267) 848.93,254.07 858,254.07 1312,254.07 cw(c1312,250.07) 1312,246.07 839.56,246.07 ccw(c839.56,242.07) 839.56,238.07 1312,238.07 cw(c1312,234.07) 1312,230.07 ; 1114,28 ccw(c1114,24) 1110,23.94 1110,-45.57 cw(c1106,-45.63) 1106,-49.63 839.57,-49.63 cw(c839.57,-45.63) 839.57,-41.63 1050,-41.63 ccw(c1050,-37.63) 1050,-33.63 839.57,-33.63 cw(c839.57,-29.63) 839.57,-25.63 1050,-25.63 ccw(c1050,-21.63) 1050,-17.63 839.57,-17.63 cw(c839.57,-13.63) 839.57,-9.63 1050,-9.63 ccw(c1050,-5.63) 1050,-1.63 839.57,-1.63 cw(c839.57,2.37) 839.57,6.37 1050,6.37 ccw(c1050,10.37) 1050,14.37 839.57,14.37 cw(c839.57,18.37) 839.57,22.37 1050,22.37 ccw(c1050,26.37) 1050,30.37 839.57,30.37 cw(c839.57,34.37) 839.57,38.37 1312.02,38.37 ccw(c1312.02,42.37) 1312.02,46.37 839.57,46.37 cw(c839.57,50.37) 839.57,54.37 1312.02,54.37 ccw(c1312.02,58.37) 1312.02,62.37 839.57,62.37 cw(c839.57,66.37) 839.57,70.37 1312.02,70.37 ccw(c1312.02,74.37) 1312.02,78.37 839.57,78.37 cw(c839.57,82.37) 839.57,86.37 1312.02,86.37 ccw(c1312.02,90.37) 1312.02,94.37 839.57,94.37 cw(c839.57,98.37) 839.57,102.37 1312.02,102.37 ccw(c1312.02,106.37) 1312.02,110.37 839.57,110.37 cw(c839.57,114.37) 839.57,118.37 1312.02,118.37 ccw(c1312.02,122.37) 1312.02,126.37 839.57,126.37 cw(c839.57,130.37) 839.57,134.37 1312.02,134.37 ccw(c1312.02,138.37) 1312.02,142.37 839.57,142.37 cw(c839.57,146.37) 839.57,150.37 1312.02,150.37 ccw(c1312.02,154.37) 1312.02,158.37 839.57,158.37 cw(c839.57,162.37) 839.57,166.37 1312.02,166.37 ccw(c1312.02,170.37) 1312.02,174.37 839.57,174.37 cw(c839.56,178.37) 839.56,182.37 1312.02,182.37 ccw(c1312.02,186.37) 1312.02,190.37 839.57,190.37 cw(c839.56,194.37) 839.56,198.37 1312.02,198.37 ccw(c1312.02,202.37) 1312.02,206.37 839.57,206.37 cw(c839.56,210.37) 839.56,214.37 1312.02,214.37 ; 1114,28.06 1312,28.05 cw(c1312,24.05) 1312,20.05 1126,20.06 ccw(c1126,16.06) 1126,12.06 1312,12.05 cw(c1312,8.05) 1312,4.05 1126,4.06 ccw(c1126,0.06) 1126,-3.94 1312,-3.94 cw(c1312,-7.95) 1312,-11.95 1126,-11.94 ccw(c1126,-15.94) 1126,-19.94 1312,-19.95 cw(c1312,-23.95) 1312,-27.95 1126,-27.94 ccw(c1126,-31.94) 1126,-35.94 1312,-35.95 cw(c1312,-39.95) 1312,-43.95 1126,-43.94 ccw(c1126,-47.94) 1126,-51.94 1312,-51.95 cw(c1312,-55.95) 1312,-59.95 ; 1312,214.22 ccw(c1312,218.22) 1312,222.22 839.56,222.22 cw(c839.56,226.22) 839.56,230.22 1312,230.22 ; 1312.44,-59.95 840,-59.94 ccw(c840,-63.94) 840,-67.94 1312.44,-67.95 cw(c1312.44,-71.95) 1312.44,-75.95 840,-75.94 ccw(c840,-79.94) 840,-83.94 1312.44,-83.95 cw(c1312.44,-87.95) 1312.44,-91.95 840,-91.94 ccw(c840,-95.94) 840,-99.94 1312.44,-99.95 cw(c1312.44,-103.95) 1312.44,-107.95 840,-107.94 ccw(c840,-111.94) 840,-115.94 1312.44,-115.95 cw(c1312.44,-119.95) 1312.44,-123.95 840,-123.94 ccw(c840,-127.94) 840,-131.94 1312.44,-131.95 cw(c1312.44,-135.95) 1312.44,-139.95 840,-139.94 ccw(c840,-143.94) 840,-147.94 1312.44,-147.95 cw(c1312.44,-151.95) 1312.44,-155.95 840,-155.94 ccw(c840,-159.94) 840,-163.94 1312.44,-163.95 cw(c1312.44,-167.95) 1312.44,-171.95 840,-171.94 ccw(c840,-175.94) 840,-179.94 1312.44,-179.95 cw(c1312.44,-183.95) 1312.44,-187.95 840,-187.94 ccw(c840,-191.94) 840,-195.94 1312.44,-195.95 cw(c1312.44,-199.95) 1312.44,-203.95 840,-203.94 ccw(c840,-207.94) 840,-211.94 1312.44,-211.95 cw(c1312.44,-215.95) 1312.44,-219.95 840,-219.94 ccw(c840,-223.94) 840,-227.94 1312.44,-227.95 cw(c1312.44,-231.95) 1312.44,-235.95 840,-235.94 ccw(c840,-239.94) 840,-243.94 1312.44,-243.95 cw(c1312.44,-247.95) 1312.44,-251.95 840,-251.94 ccw(c840,-255.94) 840,-259.94 1299,-259.95 1304.95,-259.95 cw(c1304.95,-273) 1318,-273

## REV8 [mil] "MK5"
pads (6):
  round 1 smd paste+0 mask+4: 1(-5,215) 2(-5,-240) 3(80,-240) 4(835,250) 5(840,-240) 6(905,-240)
Top Layer:
  rectangle: 1065.79,-41.16 1098.88,28.12
  rectangle: 448.76,-31.71 485.91,31.01
  region: 835,238.75 812.5,261.25 857.5,261.25
  region: 905,-228.75 927.5,-251.25 882.5,-251.25
  region: 840,-228.75 862.5,-251.25 817.5,-251.25
  region: -5,-228.75 17.5,-251.25 -27.5,-251.25
  region: 80,-228.75 102.5,-251.25 57.5,-251.25
  region: -5,203.75 -27.5,226.25 17.5,226.25
  lines w5: -5,-235 -5,-210 cw(c10,-210) 10,-195 795,-195 ; -5,210 ccw(c10,210) 10,195 795,195 cw(c795,190) 795,185 10,185 ccw(c10,180) 10,175 795,175 cw(c795,170) 795,165 10,165 ccw(c10,160) 10,155 795,155 cw(c795,150) 795,145 10,145 ccw(c10,130) 10,115 795,115 cw(c795,110) 795,105 10,105 ccw(c10,90) -5,90 -5,70 ccw(c10,70) 10,55 795,55 cw(c795,50) 795,45 10,45 ccw(c10,35) 10,25 425,25 cw(c425,20) 425,15 10,15 ccw(c10,10) 10,5 425,5 cw(c425,0) 425,-5 10,-5 ccw(c10,-10) 10,-15 425,-15 cw(c425,-20) 425,-25 10,-25 ccw(c10,-35) 10,-45 780,-45 ccw(c780,-35) 780,-25 500,-25 cw(c500,-20) 500,-15 780,-15 ccw(c780,-10) 780,-5 500,-5 cw(c500,0) 500,5 785,5 cw(c785,-10) 800,-10 800,-40 cw(c785,-40) 785,-55 10,-55 ccw(c10,-65) 10,-75 795,-75 cw(c795,-80) 795,-85 10,-85 ccw(c10,-100) -5,-100 -5,-110 ccw(c10,-110) 10,-125 795,-125 cw(c795,-130) 795,-135 10,-135 ccw(c10,-140) 10,-145 795,-145 cw(c795,-150) 795,-155 10,-155 ccw(c10,-160) 10,-165 795,-165 cw(c795,-170) 795,-175 10,-175 ccw(c10,-180) 10,-185 795,-185 cw(c795,-190) 795,-195 ; 80,-235 80,-220 cw(c95,-220) 95,-205 805,-205 ccw(c805,-190) 820,-190 820,120 ccw(c805,120) 805,135 10,135 ccw(c10,130) 10,125 795,125 cw(c795,110) 810,110 810,95 cw(c800,95) 800,85 10,85 ccw(c10,80) 10,75 795,75 cw(c795,60) 810,60 810,40 cw(c800,40) 800,30 500,30 ccw(c500,25) 500,20 795,20 cw(c795,5) 810,5 810,-90 cw(c795,-90) 795,-105 10,-105 ccw(c10,-110) 10,-115 795,-115 cw(c795,-130) 810,-130 810,-180 cw(c795,-180) 795,-195 ; 835,240 ccw(c850,240) 850,225 1315,225 cw(c1315,220) 1315,215 840,215 ccw(c840,210) 840,205 1315,205 cw(c1315,200) 1315,195 840,195 ccw(c840,190) 840,185 1315,185 cw(c1315,180) 1315,175 850,175 ccw(c850,160) 850,145 1305,145 cw(c1305,140) 1305,135 850,135 ccw(c850,120) 850,105 1305,105 cw(c1305,100) 1305,95 840,95 ccw(c840,90) 840,85 1305,85 cw(c1305,80) 1305,75 850,75 ccw(c850,60) 850,45 1305,45 cw(c1305,40) 1305,35 1115,35 ccw(c1115,30) 1115,25 1305,25 cw(c1305,20) 1305,15 1115,15 ccw(c1115,10) 1115,5 1305,5 cw(c1305,0) 1305,-5 1115,-5 ccw(c1115,-10) 1115,-15 1305,-15 cw(c1305,-20) 1305,-25 1115,-25 ccw(c1115,-30) 1115,-35 1305,-35 cw(c1305,-40) 1310,-40 1310,-45 cw(c1305,-45) 1305,-50 1060,-50 cw(c1060,-45) 1055,-45 1055,30 ccw(c1050,30) 1050,35 840,35 ccw(c840,30) 840,25 1040,25 cw(c1040,20) 1040,15 840,15 ccw(c840,10) 840,5 1040,5 cw(c1040,0) 1040,-5 840,-5 ccw(c840,-10) 840,-15 1040,-15 cw(c1040,-20) 1040,-25 840,-25 ccw(c840,-30) 840,-35 1040,-35 cw(c1040,-40) 1040,-45 840,-45 ccw(c840,-50) 835,-50 835,-75 ccw(c840,-75) 840,-80 1305,-80 cw(c1305,-85) 1305,-90 850,-90 ccw(c850,-105) 850,-120 1305,-120 cw(c1305,-125) 1305,-130 850,-130 ccw(c850,-145) 850,-160 1305,-160 cw(c1305,-165) 1305,-170 840,-170 ccw(c840,-175) 840,-180 1305,-180 cw(c1305,-185) 1305,-190 840,-190 ccw(c840,-195) 840,-200 1315,-200 cw(c1315,-205) 1315,-210 845,-210 ccw(c845,-215) 840,-215 840,-235 ; 905,-235 905,-225 cw(c910,-225) 910,-220 1320,-220 ccw(c1320,-210) 1330,-210 1330,155 ccw(c1320,155) 1320,165 850,165 ccw(c850,160) 850,155 1305,155 cw(c1305,140) 1305,125 850,125 ccw(c850,120) 850,115 1310,115 cw(c1310,105) 1320,105 1320,75 cw(c1310,75) 1310,65 850,65 ccw(c850,60) 850,55 1310,55 cw(c1310,45) 1320,45 1320,-50 cw(c1310,-50) 1310,-60 850,-60 ccw(c850,-65) 850,-70 1310,-70 cw(c1310,-80) 1320,-80 1320,-90 cw(c1310,-90) 1310,-100 850,-100 ccw(c850,-105) 850,-110 1305,-110 cw(c1305,-125) 1305,-140 850,-140 ccw(c850,-145) 850,-150 1310,-150 cw(c1310,-160) 1320,-160 1320,-205

## rev9 [mil] "10x10mm 6mil trace / Dual Zone: primary 1 ohm, secondary 0.5 ohm"
pads (3):
  round 1 smd paste-99999 mask+4: 1(174.29,219.71) 2(177,-227) 3(-198,-225)
Top Layer:
  rectangle: -19,-31 18.16,29
  region: -198,-213.75 -175.5,-236.25 -220.5,-236.25
  region: 177,-215.75 199.5,-238.25 154.5,-238.25
  region: 174.29,208.46 151.79,230.96 196.79,230.96
  lines w6: -198,-225 -198,200 cw(c-192,200) -192,206 155,206 cw(c155,200) 155,194 -179,194 ccw(c-179,188) -179,182 156,182 cw(c156,176) 156,170 -180,170 ccw(c-180,164) -186,164 -186,-148 ccw(c-180,-148) -180,-154 180,-154 cw(c180,-160) 180,-166 -180,-166 ccw(c-180,-172) -180,-178 180,-178 cw(c180,-184) 180,-190 -181,-190 ccw(c-181,-196) -181,-202 192,-202 ccw(c192,-196) 198,-196 ; 171,-202 cw(c171,-208) 177,-208 ; 174.29,219.71 174.29,164 cw(c168.29,164) 168.29,158 -168.31,158 ccw(c-168.31,152) -168.31,146 168.29,146 cw(c168.29,140) 168.29,134 -168.31,134 ccw(c-168.31,128) -168.31,122 168.29,122 cw(c168.29,116) 168.29,110 -168.31,110 ccw(c-168.31,104) -168.31,98 168.29,98 cw(c168.29,92) 168.29,86 -168.31,86 ccw(c-168.31,80) -168.31,74 168.29,74 cw(c168.29,68) 168.29,62 -168.31,62 ccw(c-168.31,56) -168.31,50 168.29,50 cw(c168.29,44) 168.29,38 -168.31,38 ccw(c-168.31,32) -168.31,26 -34,26 cw(c-34,20) -34,14 -168.31,14 ccw(c-168.31,8) -168.31,2 -34,2 cw(c-34,-4) -34,-10 -168.31,-10 ccw(c-168.31,-16) -168.31,-22 -34,-22 cw(c-34,-28) -34,-34 -168.31,-34 ccw(c-168.31,-40) -168.31,-46 22,-46 ccw(c22,-40) 28,-40 28,20 cw(c34,20) 34,26 168.29,26 cw(c168.29,20) 168.29,14 46,14 ccw(c46,8) 46,2 168.29,2 cw(c168.29,-4) 168.29,-10 46,-10 ccw(c46,-16) 46,-22 168.29,-22 cw(c168.29,-28) 168.29,-34 46,-34 ccw(c46,-40) 46,-46 168.29,-46 cw(c168.29,-52) 168.29,-58 -168.31,-58 ccw(c-168.31,-64) -168.31,-70 168.29,-70 cw(c168.29,-76) 168.29,-82 -168.31,-82 ccw(c-168.31,-88) -168.31,-94 168.29,-94 cw(c168.29,-100) 168.29,-106 -168.31,-106 ccw(c-168.31,-112) -168.31,-118 168.29,-118 cw(c168.29,-124) 168.29,-130 -168.31,-130 ccw(c-168.31,-136) -168.31,-142 180.17,-142 ccw(c180.17,-136) 186.17,-136 186.17,199.94 ; 177,-227 177,-202.17 ; 177.17,-208.18 cw(c183.17,-208.18) 183.17,-202.18 ; 186.17,199.85 cw(c192.17,199.85) 198.17,199.85 197.94,-196.85

## REV9-1 [mil] "MK8: Dual zone"
pads (6):
  round 1 smd paste+0 mask+4: 1(349,211) 2(64,-223) 3(4,-223) 4(811,210) 5(1155,-227) 6(1218,-227)
Top Layer:
  rectangle: 1045.91,-37.28 1079,30
  rectangle: 447.84,-24.72 485,45
  region: 1155,-215.75 1177.5,-238.25 1132.5,-238.25
  region: 1218,-215.75 1240.5,-238.25 1195.5,-238.25
  region: 811,198.75 788.5,221.25 833.5,221.25
  region: 349,199.75 371.5,222.25 326.5,222.25
  region: 64,-211.75 41.5,-234.25 86.5,-234.25
  region: 4,-211.75 -18.5,-234.25 26.5,-234.25
  lines w7: 4,-223 4,-199.5 12,-191.5 ; 43,-193.85 762,-193.85 ccw(c762,-171.85) 762,-149.85 343,-149.85 ; 343,-150 cw(c343,-143) 343,-136 ; 343,-135.85 777,-135.85 ccw(c777,-128.85) 777,-121.85 346,-121.85 ; 346,-122 cw(c346,-115) 346,-108 ; 346,-107.85 762,-107.85 ccw(c762,-85.85) 762,-63.85 442,-63.85 cw(c442,-56.85) 442,-49.85 477.85,-49.85 777,-49.85 ccw(c777,-42.85) 777,-35.85 443,-35.85 cw(c443,-27.85) 435,-27.85 435,48 cw(c443,48) 443,56 491,56 cw(c491,48) 499,48 499,-13.17 ccw(c507,-13.17) 507,-21.17 777,-21.17 ccw(c777,-14.17) 777,-7.17 521,-7.17 cw(c521,-0.17) 521,6.83 777,6.83 ccw(c777,13.83) 777,20.83 521,20.83 cw(c521,27.83) 521,34.83 777,34.83 ccw(c777,41.83) 777,48.83 521,48.83 cw(c521,55.83) 521,62.83 777,62.83 ccw(c777,69.83) 777,76.83 441,76.83 cw(c441,83.83) 441,90.83 777,90.83 ccw(c777,97.83) 777,104.83 441,104.83 cw(c441,111.83) 441,118.83 777,118.83 ccw(c777,125.83) 777,132.83 441,132.83 cw(c441,139.83) 441,146.83 ; 349,211 349,-53 ccw(c356,-53) 363,-53 363,186 cw(c370,186) 377,186 377,-56 ccw(c384,-56) 391,-56 391,186 cw(c398,186) 405,186 405,166.83 405,-56 ccw(c412,-56) 419,-56 419,9 419,152.83 419,180.83 cw(c427,180.83) 427,188.83 ; 427.32,189.15 777.24,189.15 ; 441,147.15 777.24,147.15 ; 441,160.83 cw(c441,167.83) 441,174.83 ; 441,161.15 777.24,161.15 ; 441.32,175.15 777.24,175.15 ; 777,146.83 ccw(c777,153.83) 777,160.83 ; 777,174.83 ccw(c777,181.83) 777,188.83 ; 811,213 811,196.85 811,-186 ccw(c818,-186) 825,-186 825,186 cw(c832,186) 839,186 839,-186 ccw(c846,-186) 853,-186 853,186 cw(c860,186) 867,186 867,-186 ccw(c874,-186) 881,-186 881,186 cw(c888,186) 895,186 895,-186 ccw(c902,-186) 909,-186 909,186 cw(c916,186) 923,186 923,-186 ccw(c930,-186) 937,-186 937,186 cw(c944,186) 951,186 951,-186 ccw(c958,-186) 965,-186 965,186 cw(c972,186) 979,186 979,-186 ccw(c986,-186) 993,-186 993,186 cw(c1000,186) 1007,186 1007,-186 ccw(c1014,-186) 1021,-186 1021,186 cw(c1028,186) 1035,186 1035,-186 ccw(c1042,-186) 1049,-186 1049,-56 cw(c1056,-56) 1063,-56 1063,-186 ccw(c1070,-186) 1077,-186 1077,-56 cw(c1084,-56) 1091,-56 1091,-186 ccw(c1098,-186) 1105,-186 1105,-56 cw(c1112,-56) 1119,-56 1119,-186 ccw(c1126,-186) 1133,-186 1133,-56 cw(c1140,-56) 1147,-56 1147,-186 ccw(c1154,-186) 1161,-186 1161,-56 cw(c1168,-56) 1175,-56 1175,-186 ccw(c1182,-186) 1189,-186 1189,174 ccw(c1182,174) 1175,174 1175,-27 cw(c1168,-27) 1161,-27 1161,174 ccw(c1154,174) 1147,174 1147,-27 cw(c1140,-27) 1133,-27 1133,174 ccw(c1126,174) 1119,174 1119,-27 cw(c1112,-27) 1112,-34 1097,-34 cw(c1097,-27) 1097,-20 ccw(c1097,-13) 1097,-6 cw(c1097,1) 1097,8 ccw(c1097,15) 1097,22 cw(c1097,29) 1097,36 ccw(c1097,43) 1097,50 cw(c1097,57) 1097,64 ccw(c1097,71) 1097,78 cw(c1097,85) 1097,92 ccw(c1097,99) 1097,106 cw(c1097,113) 1097,120 ccw(c1097,127) 1097,134 cw(c1097,141) 1097,148 ccw(c1097,155) 1104,155 1104,173 ccw(c1097,173) 1097,180 1072,180 ; 1071,180 ccw(c1071,173) 1071,166 cw(c1071,159) 1071,152 ccw(c1071,145) 1071,138 cw(c1071,131) 1071,124 ccw(c1071,117) 1071,110 cw(c1071,103) 1071,96 ccw(c1071,89) 1071,82 cw(c1071,75) 1071,68 ccw(c1071,61) 1071,54 cw(c1071,47) 1071,40 1056,40 cw(c1056,47) 1049,47 1049,186 cw(c1056,186) 1056,193 1197,193 cw(c1197,186) 1204,186 1204,-200 ; 1155,-227 1155,-219.04 1181.1,-192.94 ; 1204,-196.85 1204,-204.93 1218,-218.93 1218,-227
  lines w8: 12,-191.5 ccw(c12,-183.5) 12,-175.5 cw(c12,-167.5) 12,-159.5 ccw(c12,-151.5) 12,-143.5 cw(c12,-135.5) 12,-127.5 ccw(c12,-119.5) 12,-111.5 cw(c12,-103.5) 12,-95.5 ccw(c12,-87.5) 12,-79.5 cw(c12,-71.5) 12,-63.5 ccw(c12,-55.5) 12,-47.5 cw(c12,-39.5) 12,-31.5 ccw(c12,-23.5) 12,-15.5 cw(c12,-7.5) 12,0.5 ccw(c12,8.5) 12,16.5 cw(c12,24.5) 12,32.5 ccw(c12,40.5) 12,48.5 cw(c12,56.5) 12,64.5 ccw(c12,72.5) 12,80.5 cw(c12,88.5) 12,96.5 ccw(c12,104.5) 12,112.5 cw(c12,120.5) 12,128.5 ccw(c12,136.5) 12,144.5 cw(c12,152.5) 12,160.5 ccw(c12,168.5) 12,176.5 cw(c12,184.5) 12,192.5 37,192.5 cw(c37,184.5) 45,184.5 45,-71.5 ccw(c53,-71.5) 61,-71.5 61,184.5 cw(c69,184.5) 77,184.5 77,-71.5 ccw(c85,-71.5) 93,-71.5 93,184.5 cw(c101,184.5) 109,184.5 109,-71.5 ccw(c117,-71.5) 125,-71.5 125,184.5 cw(c133,184.5) 141,184.5 141,-71.5 ccw(c149,-71.5) 157,-71.5 157,184.5 cw(c165,184.5) 173,184.5 173,-71.5 ccw(c181,-71.5) 189,-71.5 189,184.5 cw(c197,184.5) 205,184.5 205,-71.5 ccw(c213,-71.5) 221,-71.5 221,184.5 cw(c229,184.5) 237,184.5 237,-71.5 ccw(c245,-71.5) 253,-71.5 253,184.5 cw(c261,184.5) 269,184.5 269,-71.5 ccw(c277,-71.5) 285,-71.5 285,184.5 cw(c293,184.5) 301,184.5 301,-71.5 ccw(c309,-71.5) 317,-71.5 317,184.5 cw(c325,184.5) 333,184.5 333,-71 ccw(c341,-71) 341,-79 761,-79 cw(c761,-87) 761,-95 331,-95 ccw(c331,-103) 323,-103 323,-141 cw(c315,-141) 307,-141 307,-103 ccw(c299,-103) 291,-103 291,-141 cw(c283,-141) 275,-141 275,-103 ccw(c267,-103) 259,-103 259,-141 cw(c251,-141) 243,-141 243,-103 ccw(c235,-103) 227,-103 227,-141 cw(c219,-141) 211,-141 211,-103 ccw(c203,-103) 195,-103 195,-141 cw(c187,-141) 179,-141 179,-103 ccw(c171,-103) 163,-103 163,-141 cw(c155,-141) 147,-141 147,-103 ccw(c139,-103) 131,-103 131,-141 cw(c123,-141) 115,-141 115,-103 ccw(c107,-103) 99,-103 99,-141 cw(c91,-141) 83,-141 83,-103 ccw(c75,-103) 67,-103 67,-141 cw(c59,-141) 51,-141 51,-103 ccw(c43,-103) 35,-103 ; 35,-104 35,-157 ccw(c43,-157) 43,-165 761.31,-165 cw(c761.31,-172) 761.31,-179 43,-179 ccw(c43,-186) 43,-193
  lines w15: 64,-223 64,-199

## TC2030-MCP-NL [mil] "TAG CONNECT - WITH LEGS"
pads (9):
  round 31 smd: 1(0,0) 2(0,50) 3(50,0) 4(50,50) 5(100,0) 6(100,50)
  round 39 hole 39 unplated: mh1(-50,25) mh2(150,65) mh3(150,-15)
Top Overlay:
  lines w8: -150,-90 -150,140 ; 250,-90 250,140
Keep-Out Layer:
  circle w1: c-50,25 r23
  circle w1: c150,65 r23
  circle w1: c150,-15 r23
Mechanical 2:
  circle w1: c-50,25 r20
  circle w1: c100,50 r11.18
  circle w1: c0,50 r11.18
  circle w1: c50,50 r11.18
  circle w1: c50,0 r11.18
  circle w1: c100,0 r11.18
  circle w1: c150,65 r20
  circle w1: c150,-15 r20
  lines w1: -145,-95 -145,145 245,145 245,-95 -145,-95 ; -125,-75 -125,125 225,125 225,-75 -125,-75 ; -10,-10 -10,10 10,10 10,-10 -10,-10
Mechanical 8:
  region: -145,-95 245,-95 245,145 -145,145
3D body "TC2030.stp": height 1566.93, standoff -66.93, extent -138.98,-93.11 235.04,143.11